# Altium schematic symbol library Interfaces.SchLib: 9 symbols
Pins are listed as number, name and electrical type; pins without a type are passive.

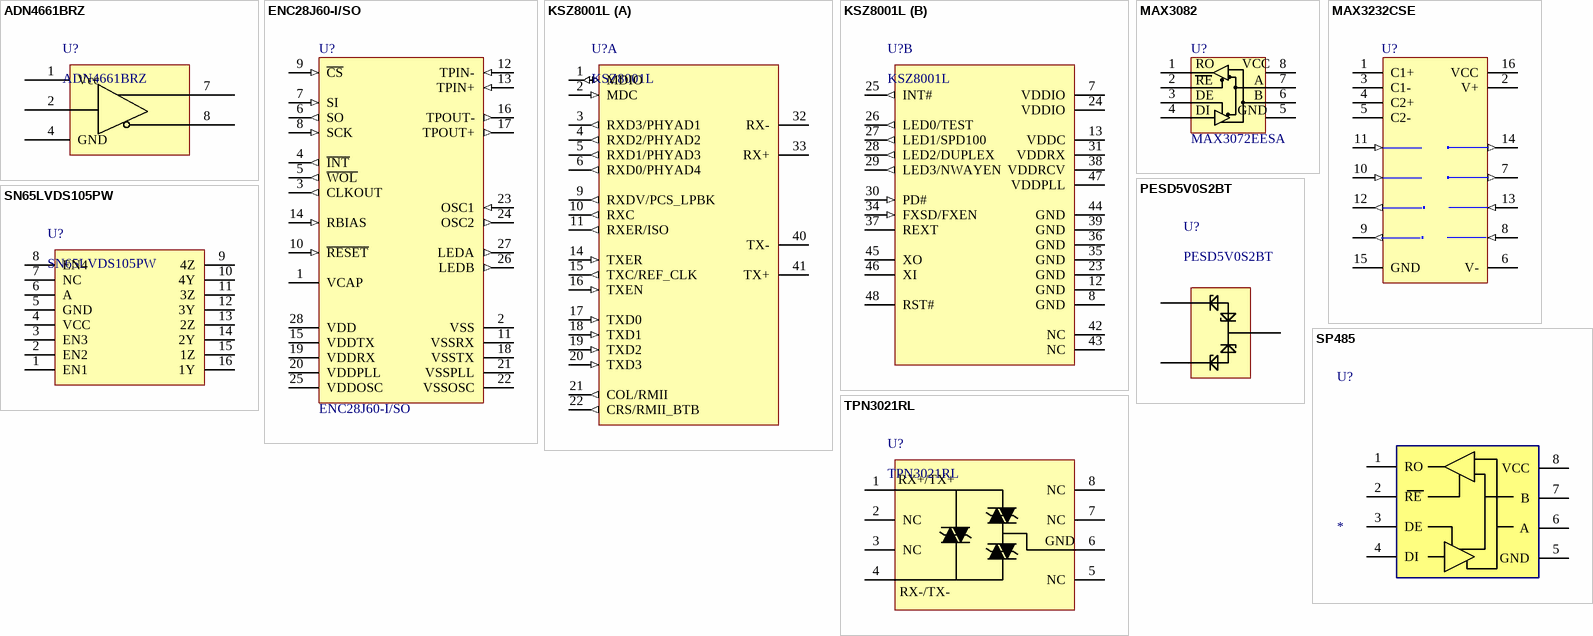
[diagram p0: symbols ADN4661BRZ to TPN3021RL]

## ADN4661BRZ
designator U?
Single, 3 V, CMOS, LVDS, High Speed Differential Driver
footprint SOIC8_L (SOIC, 8-Leads, Body 4.9x3.9mm, Pitch 1.27mm, IPC High Density)
footprint SOIC8_M (SOIC, 8-Leads, Body 4.9x3.9mm, Pitch 1.27mm, IPC Low Density)
footprint SOIC8_N (SOIC, 8-Leads, Body 4.9x3.9mm, Pitch 1.27mm, IPC Medium Density)
pins: 1 Vcc, 2 Din, 4 GND, 7 Dout+, 8 Dout-

## ENC28J60-I/SO
designator U?
Stand-Alone Ethernet Controller with SPI Interface, 28-Pin SOIC, Industrial Temperature; Published: 29-Jan-2009; DatasheetVersion: RevC, Jan-2008; PackageVersion: revBB, Aug-2009; PackageReference: SOIC-SO28; Publisher: Altium Limited; PackageDescription: 28-Lead Plastic Small Outline (SO) - Wide 7.50mm Body [SOIC]; Supplier 1: Digi-Key; Supplier Part Number 1: ENC28J60-I/SO-ND; Supplier 2: Farnell; Supplier Part Number 2: 1564401; Code_JEDEC: MS-013; ComponentLink1Description: Datasheet; ComponentLink1URL: http://ww1.microchip.com/downloads/en/DeviceDoc/39662c.pdf; ComponentLink2Description: Packaging Specification; ComponentLink2URL: http://www.microchip.com/stellent/groups/techpub_sg/documents/packagingspec/en012702.pdf; ComponentLink3Description: Microchip.com Home; ComponentLink3URL: http://www.microchip.com/
footprint SOIC-SO28_N (SOIC, 28-Leads, Body 17.9x7.5mm, Pitch 1.27mm, IPC Medium Density)
footprint SOIC-SO28_L (SOIC, 28-Leads, Body 17.9x7.5mm, Pitch 1.27mm, IPC High Density)
footprint SOIC-SO28_M (SOIC, 28-Leads, Body 17.9x7.5mm, Pitch 1.27mm, IPC Low Density)
pins: 1 VCAP (power), 2 VSS (power), 3 CLKOUT (out), 4 ~{INT} (out), 5 ~{WOL} (out), 6 SO (out), 7 SI (in), 8 SCK (in), 9 ~{CS} (in), 10 ~{RESET} (in), 11 VSSRX (power), 12 TPIN- (in), 13 TPIN+ (in), 14 RBIAS (in), 15 VDDTX (power), 16 TPOUT- (out), 17 TPOUT+ (out), 18 VSSTX (power), 19 VDDRX (power), 20 VDDPLL (power), 21 VSSPLL (power), 22 VSSOSC (power), 23 OSC1 (in), 24 OSC2 (out), 25 VDDOSC (power), 26 LEDB (out), 27 LEDA (out), 28 VDD (power)

## KSZ8001L
designator U?
1.8V, 3.3V 10/100BASE-T/TX/FX   Physical Layer Transceiver
footprint SSOP-48 (SOP, 48-Leads, Body 16.0x7.6mm (max), Pitch 0.63mm, IPC Medium Density)
footprint LQFP-48_L (48-Pin Thin Quad Flat Pack 0.5 mm Pitch, IPC High Density)
footprint LQFP-48_M (48-Pin Thin Quad Flat Pack 0.5 mm Pitch, IPC Low Density)
footprint LQFP-48_N (48-Pin Thin Quad Flat Pack 0.5 mm Pitch, IPC Medium Density)
part A pins: 1 MDIO (io), 2 MDC (in), 3 RXD3/PHYAD1 (out), 4 RXD2/PHYAD2 (out), 5 RXD1/PHYAD3 (out), 6 RXD0/PHYAD4 (out), 9 RXDV/PCS_LPBK (out), 10 RXC (out), 11 RXER/ISO (out), 14 TXER (in), 15 TXC/REF_CLK (out), 16 TXEN (in), 17 TXD0 (in), 18 TXD1 (in), 19 TXD2 (in), 20 TXD3 (in), 21 COL/RMII (out), 22 CRS/RMII_BTB (out), 32 RX-, 33 RX+, 40 TX-, 41 TX+
part B pins: 7 VDDIO, 8 GND, 12 GND, 13 VDDC, 23 GND, 24 VDDIO, 25 INT# (out), 26 LED0/TEST (out), 27 LED1/SPD100 (out), 28 LED2/DUPLEX (out), 29 LED3/NWAYEN (out), 30 PD# (in), 31 VDDRX, 34 FXSD/FXEN (in), 35 GND, 36 GND, 37 REXT, 38 VDDRCV, 39 GND, 42 NC, 43 NC, 44 GND, 45 XO, 46 XI, 47 VDDPLL, 48 RST#

## MAX3082
designator U?, comment MAX3072EESA
+3.3V, ±15kV ESD-Protected, Fail-Safe,Hot-Swap, RS-485/RS-422 Transceivers
footprint SO8_L (SOIC, 8-Leads, Body 4.9x3.9mm, Pitch 1.27mm, IPC High Density)
footprint SO8_M (SOIC, 8-Leads, Body 4.9x3.9mm, Pitch 1.27mm, IPC Low Density)
footprint SO8_N (SOIC, 8-Leads, Body 4.9x3.9mm, Pitch 1.27mm, IPC Medium Density)
pins: 1 RO, 2 ~{RE}, 3 DE, 4 DI, 5 GND, 6 B, 7 A, 8 VCC
text: RE

## MAX3232CSE
designator U?
3.0V TO 5.5V, Low-Power, up to 1Mbps, True RS-232 Transceiver Using Four 0.1µF External Capacitor; Published: 16-Jan-2001; LatestRevisionDate: 13-Apr-2006; LatestRevisionNote: IPC-7351 Footprint Added.; DatasheetVersion: Mar-1999; PackageReference: NSO16; Publisher: Altium Limited; PackageDescription: 16-Pin Small Outline Integrated Circuit 1.27 mm Pitch; Code_JEDEC: MS-012-AC; Code_IPC: SOIC127P600-16; ComponentLink1Description: Manufacturer Link; ComponentLink1URL: http://www.maxim-ic.com/; ComponentLink2Description: Datasheet; ComponentLink2URL: http://pdfserv.maxim-ic.com/en/ds/MAX3222-MAX3241.pdf
3D model NSO16 (16-Pin Small Outline Integrated Circuit 1.27 mm Pitch)
footprint SOIC-SL16_L (SOIC, 16-Leads, Body 9.9x3.9mm, Pitch 1.27mm, IPC High Density)
footprint SOIC-SL16_M (SOIC, 16-Leads, Body 9.9x3.9mm, Pitch 1.27mm, IPC Low Density)
footprint SOIC-SL16_N (SOIC, 16-Leads, Body 9.9x3.9mm, Pitch 1.27mm, IPC Medium Density)
pins: 1 C1+, 2 V+ (power), 3 C1-, 4 C2+, 5 C2-, 6 V- (power), 7 T2OUT (out), 8 R2IN (in), 9 R2OUT (out), 10 T2IN (in), 11 T1IN (in), 12 R1OUT (out), 13 R1IN (in), 14 T1OUT (out), 15 GND (power), 16 VCC (power)

## PESD5V0S2BT
designator U?
Low capacitance bidirectional double ESD protection diode
footprint SOT23-3_L (SOT23, 3-Leads, Body 2.9x1.3mm, Pitch 0.95mm, Lead Span 2.3mm, IPC High Density)
footprint SOT23-3_M (SOT23, 3-Leads, Body 2.9x1.3mm, Pitch 0.95mm, Lead Span 2.3mm, IPC Low Density)
footprint SOT23-3_N (SOT23, 3-Leads, Body 2.9x1.3mm, Pitch 0.95mm, Lead Span 2.3mm, IPC Medium Density)
pins: 1 Cathode1, 2 Cathode2, 3 DoubleCathode

## SN65LVDS105PW
designator U?
4-PORT LVDS AND 4-PORT TTL-TO-LVDS REPEATERS
footprint TSSOP16 (TSOP, 16-Leads, Body 5.0x4.4mm (max), Pitch 0.65mm, IPC Medium Density)
pins: 1 EN1, 2 EN2, 3 EN3, 4 VCC, 5 GND, 6 A, 7 NC, 8 EN4, 9 4Z, 10 4Y, 11 3Z, 12 3Y, 13 2Z, 14 2Y, 15 1Z, 16 1Y

## SP485
designator U?
Communication  IC
footprint SOIC127P600-8M (SOIC, 8-Leads, Body 4.9x3.9mm, Pitch 1.27mm, IPC Low Density)
pins: 1 RO, 2 RE, 3 DE, 4 DI, 5 GND, 6 A, 7 B, 8 VCC

## TPN3021RL
designator U?
TRIPOLAR OVERVOLTAGE PROTECTION  FOR NETWORK INTERFACES
footprint SO8_L (SOIC, 8-Leads, Body 4.9x3.9mm, Pitch 1.27mm, IPC High Density)
footprint SO8_M (SOIC, 8-Leads, Body 4.9x3.9mm, Pitch 1.27mm, IPC Low Density)
footprint SO8_N (SOIC, 8-Leads, Body 4.9x3.9mm, Pitch 1.27mm, IPC Medium Density)
pins: 1 RX+/TX+, 2 NC, 3 NC, 4 RX-/TX-, 5 NC, 6 GND, 7 NC, 8 NC